# EAGLE library part AVR_ICP (library m_connector)
AVR ICP Header AVR standard 6 pin ISP programming header.
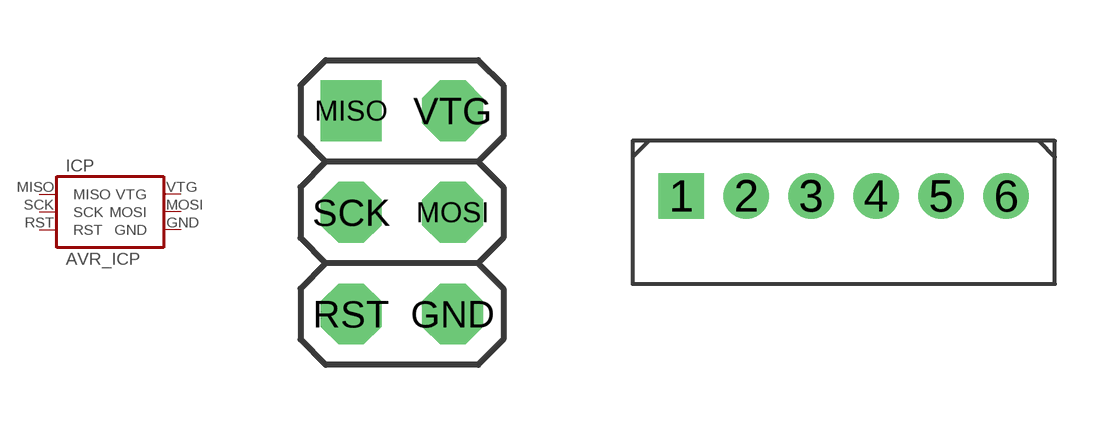
[diagram p2: symbol with the pads of AVR_ISP_6; footprints AVR_ISP_6, MICROBLADE2MM_6]

Designator prefix ICP

## AVR_ICPSTNADARD_0.1  [AVR_ISP_6]
GND  GND
MISO  MISO
MOSI  MOSI
RST  RST
SCK  SCK
VTG  VTG

## AVR_ICPMICROBLADE  [MICROBLADE2MM_6]
1  GND
2  MISO
3  MOSI
4  RST
5  SCK
6  VTG

## AVR_ICPPICOBLADE  [MOLEX_53047-0610]
Pads as for MICROBLADE2MM_6

## Footprint AVR_ISP_6 (pad centres in mm)
AVR ISP Header 6 pin
drill 1.016 octagon: GND 1.27,-2.54; MOSI 1.27,0; RST -1.27,-2.54; SCK -1.27,0; VTG 1.27,2.54
drill 1.016 square: MISO -1.27,2.54

## Footprint MICROBLADE2MM_6 (pad centres in mm)
drill 0.889 square: 1 -5,0
drill 0.889: 2 -3,0; 3 -1,0; 4 1,0; 5 3,0; 6 5,0

## Footprint MOLEX_53047-0610 (pad centres in mm)
Molex 53047 Series, 1.25mm Pitch, 6 Conductor Molex 1.25mm pitch through hole connector. Pre tinned phosphor bronze pins, mates with 51021 series.
drill 0.5 long: 1 -3.125,0; 2 -1.875,0; 3 -0.625,0; 4 0.625,0; 5 1.875,0; 6 3.125,0